# Altium footprint library pins.PcbLib: 69 footprints (part 5 of 5)
Each footprint in its own frame and in the unit in brackets; x right, y up, seen from the top. Pads: shape width x height; smd on the part's side, far side on the other; paste and mask are expansions set on the pad; w line width, h text height; cw(c..) or ccw(c..) is an arc to the next point about the centre after c.
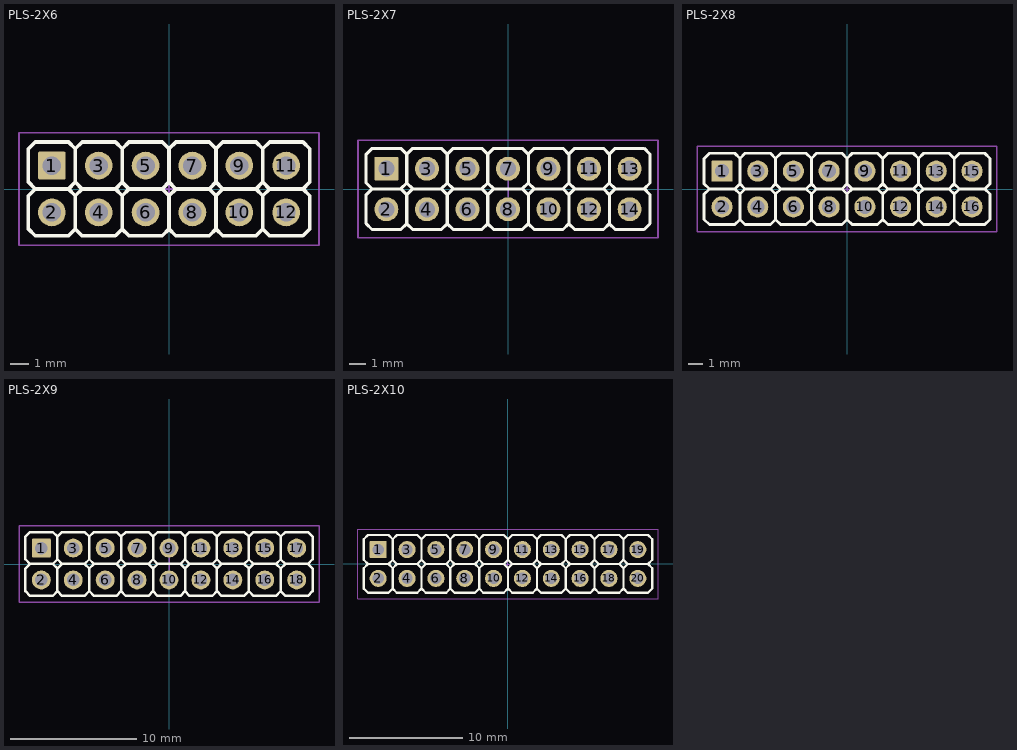
[diagram p4: the footprints below, top view; thin cyan lines are the x and y axes]

## PLS-2X6 [mm]
pads (12):
  rrect10% 1.5x1.5 hole 1: 1(-6.35,1.27)
  round 1.5 hole 1: 2(-6.35,-1.27) 3(-3.81,1.27) 4(-3.81,-1.27) 5(-1.27,1.27) 6(-1.27,-1.27) 7(1.27,1.27) 8(1.27,-1.27) 9(3.81,1.27) 10(3.81,-1.27) 11(6.35,1.27) 12(6.35,-1.27)
Top Overlay:
  lines w0.2: -7.62,-2.17 -7.62,-0.37 ; -7.62,-2.165 -7.25,-2.535 -5.445,-2.535 -5.075,-2.165 -5.075,-0.365 ; -7.62,0.37 -7.62,2.17 ; -7.62,0.375 -7.25,0.005 -5.445,0.005 ; -7.615,-0.365 -7.245,0.005 ; -7.615,2.175 -7.245,2.545 -5.445,2.545 -5.075,2.175 ; -5.08,-2.165 -4.71,-2.535 -2.905,-2.535 -2.535,-2.165 -2.535,-0.365 ; -5.08,0.375 -4.71,0.005 -2.905,0.005 ; -4.705,0.005 -5.075,-0.365 ; -2.54,-2.165 -2.17,-2.535 -0.365,-2.535 0.005,-2.165 0.005,-0.365 ; -2.54,0.375 -2.17,0.005 -0.365,0.005 ; -2.165,0.005 -2.535,-0.365 ; 0,-2.165 0.37,-2.535 2.175,-2.535 2.545,-2.165 2.545,-0.365 ; 0,0.375 0.37,0.005 2.175,0.005 ; 0.375,0.005 0.005,-0.365 ; 2.54,-2.165 2.91,-2.535 4.715,-2.535 5.085,-2.165 5.085,-0.365 ; 2.54,0.375 2.91,0.005 4.715,0.005 ; 2.915,0.005 2.545,-0.365 ; 5.08,-2.165 5.45,-2.535 7.255,-2.535 7.625,-2.165 7.625,-0.365 7.255,0.005 ; 5.08,0.375 5.45,0.005 7.255,0.005 ; 5.455,0.005 5.085,-0.365 ; -5.445,0.005 -5.075,-0.365 ; -5.445,0.005 -5.075,0.375 -5.075,2.175 ; -5.075,2.175 -4.705,2.545 -2.905,2.545 -2.535,2.175 ; -2.905,0.005 -2.535,-0.365 ; -2.905,0.005 -2.535,0.375 -2.535,2.175 ; -2.535,2.175 -2.165,2.545 -0.365,2.545 0.005,2.175 ; -0.365,0.005 0.005,-0.365 ; -0.365,0.005 0.005,0.375 0.005,2.175 ; 0.005,2.175 0.375,2.545 2.175,2.545 2.545,2.175 ; 2.175,0.005 2.545,-0.365 ; 2.175,0.005 2.545,0.375 2.545,2.175 ; 2.545,2.175 2.915,2.545 4.715,2.545 5.085,2.175 ; 4.715,0.005 5.085,-0.365 ; 4.715,0.005 5.085,0.375 5.085,2.175 ; 5.085,2.175 5.455,2.545 7.255,2.545 7.625,2.175 7.625,0.375 7.255,0.005
Mechanical 13:
  lines w0.1: -8.128,-3.048 8.128,-3.048 8.128,3.048 -8.128,3.048 -8.128,-3.048
  text ".Designator" at -0.889,-0.889 h1.8
Mechanical 15:
  lines w0.05: -8.128,-3.048 -8.128,3.048 8.128,3.048 8.128,-3.048 -8.128,-3.048
  lines w0.1: -0.5,0 0.5,0 ; 0,-0.5 0,0.5
3D body: height 2, standoff 0, extent -7.62,-2.535 -5.075,0.005
3D body: height 2, standoff 0, extent -5.08,-2.535 -2.535,0.005
3D body: height 2, standoff 0, extent -2.54,-2.535 0.005,0.005
3D body: height 2, standoff 0, extent 0,-2.535 2.545,0.005
3D body: height 2, standoff 0, extent 2.54,-2.535 5.085,0.005
3D body: height 2, standoff 0, extent 5.08,-2.535 7.625,0.005
3D body: height 2, standoff 0, extent 5.08,0.005 7.625,2.545
3D body: height 2, standoff 0, extent 2.54,0.005 5.085,2.545
3D body: height 2, standoff 0, extent 0,0.005 2.545,2.545
3D body: height 2, standoff 0, extent -2.54,0.005 0.005,2.545
3D body: height 2, standoff 0, extent -5.08,0.005 -2.535,2.545
3D body: height 2, standoff 0, extent -7.62,0.005 -5.075,2.545
3D body: height 8.5, standoff -3, extent 6.096,-1.524 6.604,-1.016
3D body: height 8.5, standoff -3, extent 3.556,-1.524 4.064,-1.016
3D body: height 8.5, standoff -3, extent 1.016,-1.524 1.524,-1.016
3D body: height 8.5, standoff -3, extent -1.524,-1.524 -1.016,-1.016
3D body: height 8.5, standoff -3, extent -4.064,-1.524 -3.556,-1.016
3D body: height 8.5, standoff -3, extent -6.604,-1.524 -6.096,-1.016
3D body: height 8.5, standoff -3, extent 6.096,1.016 6.604,1.524
3D body: height 8.5, standoff -3, extent 3.556,1.016 4.064,1.524
3D body: height 8.5, standoff -3, extent 1.016,1.016 1.524,1.524
3D body: height 8.5, standoff -3, extent -1.524,1.016 -1.016,1.524
3D body: height 8.5, standoff -3, extent -4.064,1.016 -3.556,1.524
3D body: height 8.5, standoff -3, extent -6.604,1.016 -6.096,1.524

## PLS-2X7 [mm]
pads (14):
  rrect10% 1.5x1.5 hole 1: 1(-7.62,1.27)
  round 1.5 hole 1: 2(-7.62,-1.27) 3(-5.08,1.27) 4(-5.08,-1.27) 5(-2.54,1.27) 6(-2.54,-1.27) 7(0,1.27) 8(0,-1.27) 9(2.54,1.27) 10(2.54,-1.27) 11(5.08,1.27) 12(5.08,-1.27) 13(7.62,1.27) 14(7.62,-1.27)
Top Overlay:
  lines w0.2: -8.89,-2.17 -8.89,-0.37 ; -8.89,-2.165 -8.52,-2.535 -6.715,-2.535 -6.345,-2.165 -6.345,-0.365 ; -8.89,0.37 -8.89,2.17 ; -8.89,0.375 -8.52,0.005 -6.715,0.005 ; -8.885,-0.365 -8.515,0.005 ; -8.885,2.175 -8.515,2.545 -6.715,2.545 -6.345,2.175 ; -6.35,-2.165 -5.98,-2.535 -4.175,-2.535 -3.805,-2.165 -3.805,-0.365 ; -6.35,0.375 -5.98,0.005 -4.175,0.005 ; -5.975,0.005 -6.345,-0.365 ; -3.81,-2.165 -3.44,-2.535 -1.635,-2.535 -1.265,-2.165 -1.265,-0.365 ; -3.81,0.375 -3.44,0.005 -1.635,0.005 ; -3.435,0.005 -3.805,-0.365 ; -1.27,-2.165 -0.9,-2.535 0.905,-2.535 1.275,-2.165 1.275,-0.365 ; -1.27,0.375 -0.9,0.005 0.905,0.005 ; -0.895,0.005 -1.265,-0.365 ; 1.27,-2.165 1.64,-2.535 3.445,-2.535 3.815,-2.165 3.815,-0.365 ; 1.27,0.375 1.64,0.005 3.445,0.005 ; 1.645,0.005 1.275,-0.365 ; 3.81,-2.165 4.18,-2.535 5.985,-2.535 6.355,-2.165 6.355,-0.365 ; 3.81,0.375 4.18,0.005 5.985,0.005 ; 4.185,0.005 3.815,-0.365 ; 6.35,-2.165 6.72,-2.535 8.525,-2.535 8.895,-2.165 8.895,-0.365 8.525,0.005 ; 6.35,0.375 6.72,0.005 8.525,0.005 ; 6.725,0.005 6.355,-0.365 ; -6.715,0.005 -6.345,0.375 -6.345,2.175 ; -6.715,0.005 -6.345,-0.365 ; -6.345,2.175 -5.975,2.545 -4.175,2.545 -3.805,2.175 ; -4.175,0.005 -3.805,0.375 -3.805,2.175 ; -4.175,0.005 -3.805,-0.365 ; -3.805,2.175 -3.435,2.545 -1.635,2.545 -1.265,2.175 ; -1.635,0.005 -1.265,0.375 -1.265,2.175 ; -1.635,0.005 -1.265,-0.365 ; -1.265,2.175 -0.895,2.545 0.905,2.545 1.275,2.175 ; 0.905,0.005 1.275,0.375 1.275,2.175 ; 0.905,0.005 1.275,-0.365 ; 1.275,2.175 1.645,2.545 3.445,2.545 3.815,2.175 ; 3.445,0.005 3.815,0.375 3.815,2.175 ; 3.445,0.005 3.815,-0.365 ; 3.815,2.175 4.185,2.545 5.985,2.545 6.355,2.175 ; 5.985,0.005 6.355,0.375 6.355,2.175 ; 5.985,0.005 6.355,-0.365 ; 6.355,2.175 6.725,2.545 8.525,2.545 8.895,2.175 8.895,0.375 8.525,0.005
Mechanical 13:
  lines w0.1: -9.398,-3.048 9.398,-3.048 9.398,3.048 -9.398,3.048 -9.398,-3.048
  text ".Designator" at -0.762,-0.889 h1.8
Mechanical 15:
  lines w0.05: -9.398,-3.048 -9.398,3.048 9.398,3.048 9.398,-3.048 -9.398,-3.048
  lines w0.1: -0.495,0.005 0.505,0.005 ; 0.005,-0.495 0.005,0.505
3D body: height 8.5, standoff -3, extent 7.366,-1.524 7.874,-1.016
3D body: height 8.5, standoff -3, extent 4.826,-1.524 5.334,-1.016
3D body: height 8.5, standoff -3, extent 2.286,-1.524 2.794,-1.016
3D body: height 8.5, standoff -3, extent -0.254,-1.524 0.254,-1.016
3D body: height 8.5, standoff -3, extent -2.794,-1.524 -2.286,-1.016
3D body: height 8.5, standoff -3, extent -5.334,-1.524 -4.826,-1.016
3D body: height 8.5, standoff -3, extent -7.874,-1.524 -7.366,-1.016
3D body: height 8.5, standoff -3, extent 7.366,1.016 7.874,1.524
3D body: height 8.5, standoff -3, extent 4.826,1.016 5.334,1.524
3D body: height 8.5, standoff -3, extent 2.286,1.016 2.794,1.524
3D body: height 8.5, standoff -3, extent -0.254,1.016 0.254,1.524
3D body: height 8.5, standoff -3, extent -2.794,1.016 -2.286,1.524
3D body: height 8.5, standoff -3, extent -5.334,1.016 -4.826,1.524
3D body: height 8.5, standoff -3, extent -7.874,1.016 -7.366,1.524
3D body: height 2, standoff 0, extent -8.89,0.005 -6.345,2.545
3D body: height 2, standoff 0, extent -8.89,-2.535 -6.345,0.005
3D body: height 2, standoff 0, extent -6.35,0.005 -3.805,2.545
3D body: height 2, standoff 0, extent -6.35,-2.535 -3.805,0.005
3D body: height 2, standoff 0, extent -3.81,0.005 -1.265,2.545
3D body: height 2, standoff 0, extent -3.81,-2.535 -1.265,0.005
3D body: height 2, standoff 0, extent -1.27,-2.535 1.275,0.005
3D body: height 2, standoff 0, extent -1.27,0.005 1.275,2.545
3D body: height 2, standoff 0, extent 1.27,0.005 3.815,2.545
3D body: height 2, standoff 0, extent 1.27,-2.535 3.815,0.005
3D body: height 2, standoff 0, extent 3.81,-2.535 6.355,0.005
3D body: height 2, standoff 0, extent 3.81,0.005 6.355,2.545
3D body: height 2, standoff 0, extent 6.35,0.005 8.895,2.545
3D body: height 2, standoff 0, extent 6.35,-2.535 8.895,0.005

## PLS-2X8 [mm]
pads (16):
  rrect10% 1.5x1.5 hole 1: 1(-8.89,1.27)
  round 1.5 hole 1: 2(-8.89,-1.27) 3(-6.35,1.27) 4(-6.35,-1.27) 5(-3.81,1.27) 6(-3.81,-1.27) 7(-1.27,1.27) 8(-1.27,-1.27) 9(1.27,1.27) 10(1.27,-1.27) 11(3.81,1.27) 12(3.81,-1.27) 13(6.35,1.27) 14(6.35,-1.27) 15(8.89,1.27) 16(8.89,-1.27)
Top Overlay:
  lines w0.2: -10.16,-2.17 -10.16,-0.37 ; -10.16,-2.165 -9.79,-2.535 -7.985,-2.535 -7.615,-2.165 -7.615,-0.365 ; -10.16,0.37 -10.16,2.17 ; -10.16,0.375 -9.79,0.005 -7.985,0.005 ; -10.155,-0.365 -9.785,0.005 ; -10.155,2.175 -9.785,2.545 -7.985,2.545 -7.615,2.175 ; -7.62,-2.165 -7.25,-2.535 -5.445,-2.535 -5.075,-2.165 -5.075,-0.365 ; -7.62,0.375 -7.25,0.005 -5.445,0.005 ; -7.245,0.005 -7.615,-0.365 ; -5.08,-2.165 -4.71,-2.535 -2.905,-2.535 -2.535,-2.165 -2.535,-0.365 ; -5.08,0.375 -4.71,0.005 -2.905,0.005 ; -4.705,0.005 -5.075,-0.365 ; -2.54,-2.165 -2.17,-2.535 -0.365,-2.535 0.005,-2.165 0.005,-0.365 ; -2.54,0.375 -2.17,0.005 -0.365,0.005 ; -2.165,0.005 -2.535,-0.365 ; 0,-2.165 0.37,-2.535 2.175,-2.535 2.545,-2.165 2.545,-0.365 ; 0,0.375 0.37,0.005 2.175,0.005 ; 0.375,0.005 0.005,-0.365 ; 2.54,-2.165 2.91,-2.535 4.715,-2.535 5.085,-2.165 5.085,-0.365 ; 2.54,0.375 2.91,0.005 4.715,0.005 ; 2.915,0.005 2.545,-0.365 ; 5.08,-2.165 5.45,-2.535 7.255,-2.535 7.625,-2.165 7.625,-0.365 ; 5.08,0.375 5.45,0.005 7.255,0.005 ; 5.455,0.005 5.085,-0.365 ; 7.62,-2.165 7.99,-2.535 9.795,-2.535 10.165,-2.165 10.165,-0.365 9.795,0.005 ; 7.62,0.375 7.99,0.005 9.795,0.005 ; 7.995,0.005 7.625,-0.365 ; -7.985,0.005 -7.615,0.375 -7.615,2.175 ; -7.985,0.005 -7.615,-0.365 ; -7.615,2.175 -7.245,2.545 -5.445,2.545 -5.075,2.175 ; -5.445,0.005 -5.075,0.375 -5.075,2.175 ; -5.445,0.005 -5.075,-0.365 ; -5.075,2.175 -4.705,2.545 -2.905,2.545 -2.535,2.175 ; -2.905,0.005 -2.535,0.375 -2.535,2.175 ; -2.905,0.005 -2.535,-0.365 ; -2.535,2.175 -2.165,2.545 -0.365,2.545 0.005,2.175 ; -0.365,0.005 0.005,0.375 0.005,2.175 ; -0.365,0.005 0.005,-0.365 ; 0.005,2.175 0.375,2.545 2.175,2.545 2.545,2.175 ; 2.175,0.005 2.545,0.375 2.545,2.175 ; 2.175,0.005 2.545,-0.365 ; 2.545,2.175 2.915,2.545 4.715,2.545 5.085,2.175 ; 4.715,0.005 5.085,0.375 5.085,2.175 ; 4.715,0.005 5.085,-0.365 ; 5.085,2.175 5.455,2.545 7.255,2.545 7.625,2.175 ; 7.255,0.005 7.625,0.375 7.625,2.175 ; 7.255,0.005 7.625,-0.365 ; 7.625,2.175 7.995,2.545 9.795,2.545 10.165,2.175 10.165,0.375 9.795,0.005
Mechanical 13:
  lines w0.1: -10.668,-3.048 10.668,-3.048 10.668,3.048 -10.668,3.048 -10.668,-3.048
  text ".Designator" at -0.762,-0.889 h1.8
Mechanical 15:
  lines w0.05: -10.668,-3.048 -10.668,3.048 10.668,3.048 10.668,-3.048 -10.668,-3.048
  lines w0.1: -0.5,0 0.5,0 ; 0,-0.5 0,0.5
3D body: height 2, standoff 0, extent 7.62,-2.535 10.165,0.005
3D body: height 2, standoff 0, extent 7.62,0.005 10.165,2.545
3D body: height 2, standoff 0, extent 5.08,0.005 7.625,2.545
3D body: height 2, standoff 0, extent 5.08,-2.535 7.625,0.005
3D body: height 2, standoff 0, extent 2.54,-2.535 5.085,0.005
3D body: height 2, standoff 0, extent 2.54,0.005 5.085,2.545
3D body: height 2, standoff 0, extent 0,0.005 2.545,2.545
3D body: height 2, standoff 0, extent 0,-2.535 2.545,0.005
3D body: height 2, standoff 0, extent -2.54,-2.535 0.005,0.005
3D body: height 2, standoff 0, extent -2.54,0.005 0.005,2.545
3D body: height 2, standoff 0, extent -5.08,0.005 -2.535,2.545
3D body: height 2, standoff 0, extent -5.08,-2.535 -2.535,0.005
3D body: height 2, standoff 0, extent -7.62,-2.535 -5.075,0.005
3D body: height 2, standoff 0, extent -10.16,-2.535 -7.615,0.005
3D body: height 2, standoff 0, extent -7.62,0.005 -5.075,2.545
3D body: height 2, standoff 0, extent -10.16,0.005 -7.615,2.545
3D body: height 8.5, standoff -3, extent -9.144,1.016 -8.636,1.524
3D body: height 8.5, standoff -3, extent -6.604,1.016 -6.096,1.524
3D body: height 8.5, standoff -3, extent -4.064,1.016 -3.556,1.524
3D body: height 8.5, standoff -3, extent -1.524,1.016 -1.016,1.524
3D body: height 8.5, standoff -3, extent 1.016,1.016 1.524,1.524
3D body: height 8.5, standoff -3, extent 3.556,1.016 4.064,1.524
3D body: height 8.5, standoff -3, extent 6.096,1.016 6.604,1.524
3D body: height 8.5, standoff -3, extent 8.636,1.016 9.144,1.524
3D body: height 8.5, standoff -3, extent -9.144,-1.524 -8.636,-1.016
3D body: height 8.5, standoff -3, extent -6.604,-1.524 -6.096,-1.016
3D body: height 8.5, standoff -3, extent -4.064,-1.524 -3.556,-1.016
3D body: height 8.5, standoff -3, extent -1.524,-1.524 -1.016,-1.016
3D body: height 8.5, standoff -3, extent 1.016,-1.524 1.524,-1.016
3D body: height 8.5, standoff -3, extent 3.556,-1.524 4.064,-1.016
3D body: height 8.5, standoff -3, extent 6.096,-1.524 6.604,-1.016
3D body: height 8.5, standoff -3, extent 8.636,-1.524 9.144,-1.016

## PLS-2X9 [mm]
pads (18):
  rrect10% 1.5x1.5 hole 1: 1(-10.16,1.27)
  round 1.5 hole 1: 2(-10.16,-1.27) 3(-7.62,1.27) 4(-7.62,-1.27) 5(-5.08,1.27) 6(-5.08,-1.27) 7(-2.54,1.27) 8(-2.54,-1.27) 9(0,1.27) 10(0,-1.27) 11(2.54,1.27) 12(2.54,-1.27) 13(5.08,1.27) 14(5.08,-1.27) 15(7.62,1.27) 16(7.62,-1.27) 17(10.16,1.27) 18(10.16,-1.27)
Top Overlay:
  lines w0.2: -11.43,-2.17 -11.43,-0.37 ; -11.43,-2.165 -11.06,-2.535 -9.255,-2.535 -8.885,-2.165 -8.885,-0.365 ; -11.43,0.37 -11.43,2.17 ; -11.43,0.375 -11.06,0.005 -9.255,0.005 ; -11.425,-0.365 -11.055,0.005 ; -11.425,2.175 -11.055,2.545 -9.255,2.545 -8.885,2.175 ; -8.89,-2.165 -8.52,-2.535 -6.715,-2.535 -6.345,-2.165 -6.345,-0.365 ; -8.89,0.375 -8.52,0.005 -6.715,0.005 ; -8.515,0.005 -8.885,-0.365 ; -6.35,-2.165 -5.98,-2.535 -4.175,-2.535 -3.805,-2.165 -3.805,-0.365 ; -6.35,0.375 -5.98,0.005 -4.175,0.005 ; -5.975,0.005 -6.345,-0.365 ; -3.81,-2.165 -3.44,-2.535 -1.635,-2.535 -1.265,-2.165 -1.265,-0.365 ; -3.81,0.375 -3.44,0.005 -1.635,0.005 ; -3.435,0.005 -3.805,-0.365 ; -1.27,-2.165 -0.9,-2.535 0.905,-2.535 1.275,-2.165 1.275,-0.365 ; -1.27,0.375 -0.9,0.005 0.905,0.005 ; -0.895,0.005 -1.265,-0.365 ; 1.27,-2.165 1.64,-2.535 3.445,-2.535 3.815,-2.165 3.815,-0.365 ; 1.27,0.375 1.64,0.005 3.445,0.005 ; 1.645,0.005 1.275,-0.365 ; 3.81,-2.165 4.18,-2.535 5.985,-2.535 6.355,-2.165 6.355,-0.365 ; 3.81,0.375 4.18,0.005 5.985,0.005 ; 4.185,0.005 3.815,-0.365 ; 6.35,-2.165 6.72,-2.535 8.525,-2.535 8.895,-2.165 8.895,-0.365 ; 6.35,0.375 6.72,0.005 8.525,0.005 ; 6.725,0.005 6.355,-0.365 ; 8.89,-2.165 9.26,-2.535 11.065,-2.535 11.435,-2.165 11.435,-0.365 11.065,0.005 ; 8.89,0.375 9.26,0.005 11.065,0.005 ; 9.265,0.005 8.895,-0.365 ; -9.255,0.005 -8.885,0.375 -8.885,2.175 ; -9.255,0.005 -8.885,-0.365 ; -8.885,2.175 -8.515,2.545 -6.715,2.545 -6.345,2.175 ; -6.715,0.005 -6.345,0.375 -6.345,2.175 ; -6.715,0.005 -6.345,-0.365 ; -6.345,2.175 -5.975,2.545 -4.175,2.545 -3.805,2.175 ; -4.175,0.005 -3.805,0.375 -3.805,2.175 ; -4.175,0.005 -3.805,-0.365 ; -3.805,2.175 -3.435,2.545 -1.635,2.545 -1.265,2.175 ; -1.635,0.005 -1.265,0.375 -1.265,2.175 ; -1.635,0.005 -1.265,-0.365 ; -1.265,2.175 -0.895,2.545 0.905,2.545 1.275,2.175 ; 0.905,0.005 1.275,0.375 1.275,2.175 ; 0.905,0.005 1.275,-0.365 ; 1.275,2.175 1.645,2.545 3.445,2.545 3.815,2.175 ; 3.445,0.005 3.815,0.375 3.815,2.175 ; 3.445,0.005 3.815,-0.365 ; 3.815,2.175 4.185,2.545 5.985,2.545 6.355,2.175 ; 5.985,0.005 6.355,0.375 6.355,2.175 ; 5.985,0.005 6.355,-0.365 ; 6.355,2.175 6.725,2.545 8.525,2.545 8.895,2.175 ; 8.525,0.005 8.895,0.375 8.895,2.175 ; 8.525,0.005 8.895,-0.365 ; 8.895,2.175 9.265,2.545 11.065,2.545 11.435,2.175 11.435,0.375 11.065,0.005
Mechanical 13:
  lines w0.1: -11.938,-3.048 -11.938,3.048 11.938,3.048 11.938,-3.048 -11.938,-3.048
  text ".Designator" at -0.762,-0.889 h1.8
Mechanical 15:
  lines w0.05: -11.938,-3.048 11.938,-3.048 11.938,3.048 -11.938,3.048 -11.938,-3.048
  lines w0.1: -0.495,0.005 0.505,0.005 ; 0.005,-0.495 0.005,0.505
3D body: height 2, standoff 0, extent 8.89,0.005 11.435,2.545
3D body: height 2, standoff 0, extent 8.89,-2.535 11.435,0.005
3D body: height 2, standoff 0, extent 6.35,-2.535 8.895,0.005
3D body: height 2, standoff 0, extent 6.35,0.005 8.895,2.545
3D body: height 2, standoff 0, extent 3.81,0.005 6.355,2.545
3D body: height 2, standoff 0, extent 3.81,-2.535 6.355,0.005
3D body: height 2, standoff 0, extent 1.27,-2.535 3.815,0.005
3D body: height 2, standoff 0, extent 1.27,0.005 3.815,2.545
3D body: height 2, standoff 0, extent -1.27,0.005 1.275,2.545
3D body: height 2, standoff 0, extent -1.27,-2.535 1.275,0.005
3D body: height 2, standoff 0, extent -3.81,-2.535 -1.265,0.005
3D body: height 2, standoff 0, extent -3.81,0.005 -1.265,2.545
3D body: height 2, standoff 0, extent -6.35,0.005 -3.805,2.545
3D body: height 2, standoff 0, extent -6.35,-2.535 -3.805,0.005
3D body: height 2, standoff 0, extent -11.43,-2.535 -8.885,0.005
3D body: height 2, standoff 0, extent -8.89,-2.535 -6.345,0.005
3D body: height 2, standoff 0, extent -8.89,0.005 -6.345,2.545
3D body: height 2, standoff 0, extent -11.43,0.005 -8.885,2.545
3D body: height 8.5, standoff -3, extent 9.906,-1.524 10.414,-1.016
3D body: height 8.5, standoff -3, extent 7.366,-1.524 7.874,-1.016
3D body: height 8.5, standoff -3, extent 4.826,-1.524 5.334,-1.016
3D body: height 8.5, standoff -3, extent 2.286,-1.524 2.794,-1.016
3D body: height 8.5, standoff -3, extent -0.254,-1.524 0.254,-1.016
3D body: height 8.5, standoff -3, extent -2.794,-1.524 -2.286,-1.016
3D body: height 8.5, standoff -3, extent -5.334,-1.524 -4.826,-1.016
3D body: height 8.5, standoff -3, extent -7.874,-1.524 -7.366,-1.016
3D body: height 8.5, standoff -3, extent -10.414,-1.524 -9.906,-1.016
3D body: height 8.5, standoff -3, extent 9.906,1.016 10.414,1.524
3D body: height 8.5, standoff -3, extent 7.366,1.016 7.874,1.524
3D body: height 8.5, standoff -3, extent 4.826,1.016 5.334,1.524
3D body: height 8.5, standoff -3, extent 2.286,1.016 2.794,1.524
3D body: height 8.5, standoff -3, extent -0.254,1.016 0.254,1.524
3D body: height 8.5, standoff -3, extent -2.794,1.016 -2.286,1.524
3D body: height 8.5, standoff -3, extent -5.334,1.016 -4.826,1.524
3D body: height 8.5, standoff -3, extent -7.874,1.016 -7.366,1.524
3D body: height 8.5, standoff -3, extent -10.414,1.016 -9.906,1.524

## PLS-2X10 [mm]
pads (20):
  rrect10% 1.5x1.5 hole 1: 1(-11.43,1.27)
  round 1.5 hole 1: 2(-11.43,-1.27) 3(-8.89,1.27) 4(-8.89,-1.27) 5(-6.35,1.27) 6(-6.35,-1.27) 7(-3.81,1.27) 8(-3.81,-1.27) 9(-1.27,1.27) 10(-1.27,-1.27) 11(1.27,1.27) 12(1.27,-1.27) 13(3.81,1.27) 14(3.81,-1.27) 15(6.35,1.27) 16(6.35,-1.27) 17(8.89,1.27) 18(8.89,-1.27) 19(11.43,1.27) 20(11.43,-1.27)
Top Overlay:
  lines w0.2: -12.7,-2.17 -12.7,-0.37 ; -12.7,-2.165 -12.33,-2.535 -10.525,-2.535 -10.155,-2.165 -10.155,-0.365 ; -12.7,0.37 -12.7,2.17 ; -12.7,0.375 -12.33,0.005 -10.525,0.005 ; -12.695,-0.365 -12.325,0.005 ; -12.695,2.175 -12.325,2.545 -10.525,2.545 -10.155,2.175 ; -10.16,-2.165 -9.79,-2.535 -7.985,-2.535 -7.615,-2.165 -7.615,-0.365 ; -10.16,0.375 -9.79,0.005 -7.985,0.005 ; -9.785,0.005 -10.155,-0.365 ; -7.62,-2.165 -7.25,-2.535 -5.445,-2.535 -5.075,-2.165 -5.075,-0.365 ; -7.62,0.375 -7.25,0.005 -5.445,0.005 ; -7.245,0.005 -7.615,-0.365 ; -5.08,-2.165 -4.71,-2.535 -2.905,-2.535 -2.535,-2.165 -2.535,-0.365 ; -5.08,0.375 -4.71,0.005 -2.905,0.005 ; -4.705,0.005 -5.075,-0.365 ; -2.54,-2.165 -2.17,-2.535 -0.365,-2.535 0.005,-2.165 0.005,-0.365 ; -2.54,0.375 -2.17,0.005 -0.365,0.005 ; -2.165,0.005 -2.535,-0.365 ; 0,-2.165 0.37,-2.535 2.175,-2.535 2.545,-2.165 2.545,-0.365 ; 0,0.375 0.37,0.005 2.175,0.005 ; 0.375,0.005 0.005,-0.365 ; 2.54,-2.165 2.91,-2.535 4.715,-2.535 5.085,-2.165 5.085,-0.365 ; 2.54,0.375 2.91,0.005 4.715,0.005 ; 2.915,0.005 2.545,-0.365 ; 5.08,-2.165 5.45,-2.535 7.255,-2.535 7.625,-2.165 7.625,-0.365 ; 5.08,0.375 5.45,0.005 7.255,0.005 ; 5.455,0.005 5.085,-0.365 ; 7.62,-2.165 7.99,-2.535 9.795,-2.535 10.165,-2.165 10.165,-0.365 ; 7.62,0.375 7.99,0.005 9.795,0.005 ; 7.995,0.005 7.625,-0.365 ; 10.16,-2.165 10.53,-2.535 12.335,-2.535 12.705,-2.165 12.705,-0.365 12.335,0.005 ; 10.16,0.375 10.53,0.005 12.335,0.005 ; 10.535,0.005 10.165,-0.365 ; -10.525,0.005 -10.155,-0.365 ; -10.525,0.005 -10.155,0.375 -10.155,2.175 ; -10.155,2.175 -9.785,2.545 -7.985,2.545 -7.615,2.175 ; -7.985,0.005 -7.615,-0.365 ; -7.985,0.005 -7.615,0.375 -7.615,2.175 ; -7.615,2.175 -7.245,2.545 -5.445,2.545 -5.075,2.175 ; -5.445,0.005 -5.075,-0.365 ; -5.445,0.005 -5.075,0.375 -5.075,2.175 ; -5.075,2.175 -4.705,2.545 -2.905,2.545 -2.535,2.175 ; -2.905,0.005 -2.535,-0.365 ; -2.905,0.005 -2.535,0.375 -2.535,2.175 ; -2.535,2.175 -2.165,2.545 -0.365,2.545 0.005,2.175 ; -0.365,0.005 0.005,-0.365 ; -0.365,0.005 0.005,0.375 0.005,2.175 ; 0.005,2.175 0.375,2.545 2.175,2.545 2.545,2.175 ; 2.175,0.005 2.545,-0.365 ; 2.175,0.005 2.545,0.375 2.545,2.175 ; 2.545,2.175 2.915,2.545 4.715,2.545 5.085,2.175 ; 4.715,0.005 5.085,-0.365 ; 4.715,0.005 5.085,0.375 5.085,2.175 ; 5.085,2.175 5.455,2.545 7.255,2.545 7.625,2.175 ; 7.255,0.005 7.625,-0.365 ; 7.255,0.005 7.625,0.375 7.625,2.175 ; 7.625,2.175 7.995,2.545 9.795,2.545 10.165,2.175 ; 9.795,0.005 10.165,-0.365 ; 9.795,0.005 10.165,0.375 10.165,2.175 ; 10.165,2.175 10.535,2.545 12.335,2.545 12.705,2.175 12.705,0.375 12.335,0.005
Mechanical 13:
  lines w0.1: -13.208,-3.048 13.208,-3.048 13.208,3.048 -13.208,3.048 -13.208,-3.048
  text ".Designator" at -0.762,-0.889 h1.8
Mechanical 15:
  lines w0.05: -13.208,-3.048 -13.208,3.048 13.208,3.048 13.208,-3.048 -13.208,-3.048
  lines w0.1: -0.5,0 0.5,0 ; 0,-0.5 0,0.5
3D body: height 8.5, standoff -3, extent -11.684,-1.524 -11.176,-1.016
3D body: height 8.5, standoff -3, extent -9.144,-1.524 -8.636,-1.016
3D body: height 8.5, standoff -3, extent -6.604,-1.524 -6.096,-1.016
3D body: height 8.5, standoff -3, extent -4.064,-1.524 -3.556,-1.016
3D body: height 8.5, standoff -3, extent -1.524,-1.524 -1.016,-1.016
3D body: height 8.5, standoff -3, extent 1.016,-1.524 1.524,-1.016
3D body: height 8.5, standoff -3, extent 3.556,-1.524 4.064,-1.016
3D body: height 8.5, standoff -3, extent 6.096,-1.524 6.604,-1.016
3D body: height 8.5, standoff -3, extent 8.636,-1.524 9.144,-1.016
3D body: height 8.5, standoff -3, extent 11.176,-1.524 11.684,-1.016
3D body: height 8.5, standoff -3, extent -11.684,1.016 -11.176,1.524
3D body: height 8.5, standoff -3, extent -9.144,1.016 -8.636,1.524
3D body: height 8.5, standoff -3, extent -6.604,1.016 -6.096,1.524
3D body: height 8.5, standoff -3, extent -4.064,1.016 -3.556,1.524
3D body: height 8.5, standoff -3, extent -1.524,1.016 -1.016,1.524
3D body: height 8.5, standoff -3, extent 1.016,1.016 1.524,1.524
3D body: height 8.5, standoff -3, extent 3.556,1.016 4.064,1.524
3D body: height 8.5, standoff -3, extent 6.096,1.016 6.604,1.524
3D body: height 8.5, standoff -3, extent 8.636,1.016 9.144,1.524
3D body: height 8.5, standoff -3, extent 11.176,1.016 11.684,1.524
3D body: height 2, standoff 0, extent -12.7,0.005 -10.155,2.545
3D body: height 2, standoff 0, extent -12.7,-2.535 -10.155,0.005
3D body: height 2, standoff 0, extent -10.16,-2.535 -7.615,0.005
3D body: height 2, standoff 0, extent -10.16,0.005 -7.615,2.545
3D body: height 2, standoff 0, extent -7.62,-2.535 -5.075,0.005
3D body: height 2, standoff 0, extent -7.62,0.005 -5.075,2.545
3D body: height 2, standoff 0, extent -5.08,0.005 -2.535,2.545
3D body: height 2, standoff 0, extent -5.08,-2.535 -2.535,0.005
3D body: height 2, standoff 0, extent -2.54,-2.535 0.005,0.005
3D body: height 2, standoff 0, extent -2.54,0.005 0.005,2.545
3D body: height 2, standoff 0, extent 0,0.005 2.545,2.545
3D body: height 2, standoff 0, extent 0,-2.535 2.545,0.005
3D body: height 2, standoff 0, extent 2.54,-2.535 5.085,0.005
3D body: height 2, standoff 0, extent 2.54,0.005 5.085,2.545
3D body: height 2, standoff 0, extent 5.08,0.005 7.625,2.545
3D body: height 2, standoff 0, extent 5.08,-2.535 7.625,0.005
3D body: height 2, standoff 0, extent 7.62,0.005 10.165,2.545
3D body: height 2, standoff 0, extent 7.62,-2.535 10.165,0.005
3D body: height 2, standoff 0, extent 10.16,-2.535 12.705,0.005
3D body: height 2, standoff 0, extent 10.16,0.005 12.705,2.545